# Altium footprint library Eurobot_lib.PcbLib: 52 footprints (part 2 of 4)
Each footprint in its own frame and in the unit in brackets; x right, y up, seen from the top. Pads: shape width x height; smd on the part's side, far side on the other; paste and mask are expansions set on the pad; w line width, h text height; cw(c..) or ccw(c..) is an arc to the next point about the centre after c.
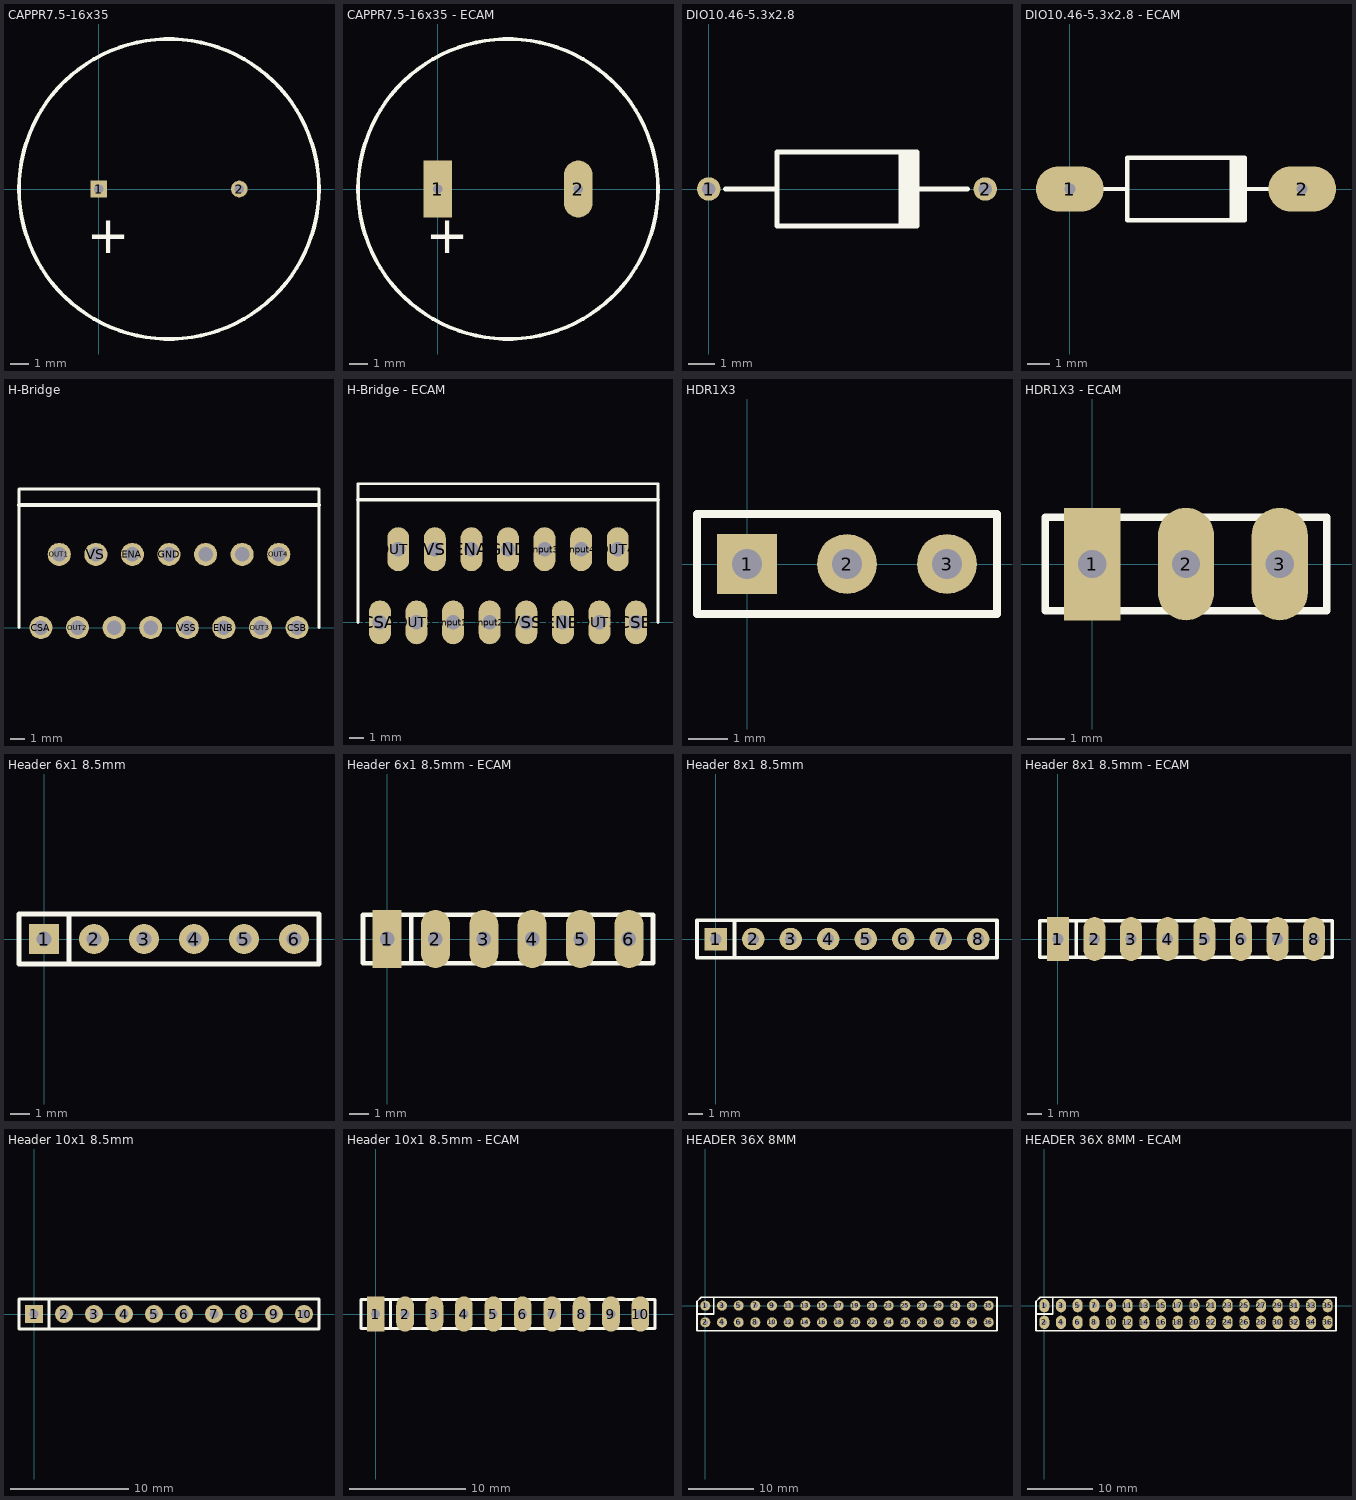
[diagram p1: the footprints below, top view; thin cyan lines are the x and y axes]

## CAPPR7.5-16x35 [mil] "Capacitor, Electrolytic, Radial; Body 16 x 35 mm (Dia.xH typ); Pin Spacing 7.5 mm (typ)"
pads (2):
  rect 35x35 hole 19.68: 1(0,0)
  round 35 hole 19.68: 2(295.28,0)
Top Overlay:
  circle w7.87: c147.64,0 r314.96
  text "+" at -25,-135 h78.74

## CAPPR7.5-16x35 - ECAM [mil] "Capacitor, Electrolytic, Radial; Body 16 x 35 mm (Dia.xH typ); Pin Spacing 7.5 mm (typ)"
pads (2):
  rect 60x120 hole 19.68: 1(0,0)
  oval 60x120 hole 19.68: 2(295.28,0)
Top Overlay:
  circle w7.87: c147.64,0 r314.96
  text "+" at -25,-135 h78.74

## DIO10.46-5.3x2.8 [mil] "Diode, Axial; Body 5.2 x 2.7 mm (LxDia. max), Lead Dia. 0.86 mm (max)"
height 110.24
pads (2):
  round 35 hole 19.68: 1(0,0) 2(411.81,0)
Top Overlay:
  rectangle: 282.68,-55.12 314.17,55.12
  lines w7.87: 25,0 101.57,0 ; 305,0 385,0 ; 310.24,-55.12 101.57,-55.12 101.57,55.12 310.24,55.12

## DIO10.46-5.3x2.8 - ECAM [mil] "Diode, Axial; Body 5.2 x 2.7 mm (LxDia. max), Lead Dia. 0.86 mm (max)"
height 110.24
pads (2):
  oval 120x80 hole 19.68: 1(0,0) 2(411.81,0)
Top Overlay:
  rectangle: 282.68,-55.12 314.17,55.12
  lines w7.87: 25,0 101.57,0 ; 305,0 385,0 ; 310.24,-55.12 101.57,-55.12 101.57,55.12 310.24,55.12

## H-Bridge [mm] "MultiWatt15; 15 Leads; Row Spacing 5.08 mm; Pitch 2.54 mm"
height 5.08
pads (15):
  round 1.6 hole 1: CSA(4.064,0) CSB(21.844,0) ENA(10.414,5.08) ENB(16.764,0) GND(12.954,5.08) input1(9.144,0) input2(11.684,0) input3(15.494,5.08) input4(18.034,5.08) OUT1(5.334,5.08) OUT2(6.604,0) OUT3(19.304,0) OUT4(20.574,5.08) VS(7.874,5.08) VSS(14.224,0)
Top Overlay:
  lines w0.2: 2.54,0 2.54,9.627 23.368,9.627 23.368,0
  lines w0.254: 2.54,8.509 23.368,8.509

## H-Bridge - ECAM [mil] "MultiWatt15; 15 Leads; Row Spacing 5.08 mm; Pitch 2.54 mm"
height 200
pads (15):
  oval 60x120 hole 39.37: CSA(160,0) CSB(860,0) ENA(410,200) ENB(660,0) GND(510,200) input1(360,0) input2(460,0) input3(610,200) input4(710,200) OUT1(210,200) OUT2(260,0) OUT3(760,0) OUT4(810,200) VS(310,200) VSS(560,0)
Top Overlay:
  lines w7.87: 100,0 100,379 920,379 920,0
  lines w10: 100,335 920,335

## HDR1X3 [mil] "Connector; Header; 3 Position"
pads (3):
  rect 60x60 hole 30: 1(0,0)
  round 60 hole 30: 2(100,0) 3(200,0)
Top Overlay:
  lines w7.87: -50,-50 -50,50 250,50 250,-50 -50,-50

## HDR1X3 - ECAM [mil] "Connector; Header; 3 Position"
pads (3):
  rect 60x120 hole 30: 1(0,0)
  oval 60x120 hole 30: 2(100,0) 3(200,0)
Top Overlay:
  lines w7.87: -50,-50 -50,50 250,50 250,-50 -50,-50

## Header 6x1 8.5mm [mil] "Stackable 6 pin header"
pads (6):
  rect 60x60 hole 30: 1(0,0)
  round 60 hole 30: 2(100,0) 3(200,0) 4(300,0) 5(400,0) 6(500,0)
Top Overlay:
  lines w10: 50,-50 550,-50 550,50 50,50 ; 50,-50 50,50 ; 50,-50 -50,-50 -50,0 -50,50 50,50
3D body "SIL_Socket06.stp": height 334.65, standoff -584.65, extent -49.99,-49.99 550.01,50.01

## Header 6x1 8.5mm - ECAM [mil] "Stackable 6 pin header"
pads (6):
  rect 60x120 hole 30: 1(0,0)
  oval 60x120 hole 30: 2(100,0) 3(200,0) 4(300,0) 5(400,0) 6(500,0)
Top Overlay:
  lines w10: 50,-50 550,-50 550,50 50,50 ; 50,-50 50,50 ; 50,-50 -50,-50 -50,0 -50,50 50,50
3D body "SIL_Socket06.stp": height 334.65, standoff -584.65, extent -49.99,-49.99 550.01,50.01

## Header 8x1 8.5mm [mil] "Stackable 8 pin header"
pads (8):
  rect 60x60 hole 30: 1(0,0)
  round 60 hole 30: 2(100,0) 3(200,0) 4(300,0) 5(400,0) 6(500,0) 7(600,0) 8(700,0)
Top Overlay:
  lines w10: 50,-50 50,50 ; -50,-50 750,-50 750,50 -50,50 -50,-50
3D body "SIL_Socket08_.stp": height 334.65, standoff -584.65, extent -50,-49.99 750,50.01

## Header 8x1 8.5mm - ECAM [mil] "Stackable 8 pin header"
pads (8):
  rect 60x120 hole 30: 1(0,0)
  oval 60x120 hole 30: 2(100,0) 3(200,0) 4(300,0) 5(400,0) 6(500,0) 7(600,0) 8(700,0)
Top Overlay:
  lines w10: 50,-50 50,50 ; -50,-50 -50,50 750,50 750,-50 -50,-50
3D body "SIL_Socket08_.stp": height 334.65, standoff -584.65, extent -50,-49.99 750,50.01

## Header 10x1 8.5mm [mil] "Stackable 10 pin header"
pads (10):
  rect 60x60 hole 30: 1(0,0)
  round 60 hole 30: 2(100,0) 3(200,0) 4(300,0) 5(400,0) 6(500,0) 7(600,0) 8(700,0) 9(800,0) 10(900,0)
Top Overlay:
  lines w10: 50,-50 -50,-50 -50,50 50,50 ; 50,-50 950,-50 950,50 50,50 ; 50,-50 50,50
3D body "SIL_Socket10.stp": height 334.65, standoff -584.65, extent -50,-50 950,50

## Header 10x1 8.5mm - ECAM [mil] "Stackable 10 pin header"
pads (10):
  rect 60x120 hole 30: 1(0,0)
  oval 60x120 hole 30: 2(100,0) 3(200,0) 4(300,0) 5(400,0) 6(500,0) 7(600,0) 8(700,0) 9(800,0) 10(900,0)
Top Overlay:
  lines w10: 50,-50 50,50 ; 50,-50 950,-50 950,50 50,50 ; 50,-50 -50,-50 -50,50 50,50
3D body "SIL_Socket10.stp": height 334.65, standoff -584.65, extent -50,-50 950,50

## HEADER 36X 8MM [mil] "Stackable 10 pin header"
pads (36):
  round 60 hole 30: 1(0,0) 2(0,-100) 3(100,0) 4(100,-100) 5(200,0) 6(200,-100) 7(300,0) 8(300,-100) 9(400,0) 10(400,-100) 11(500,0) 12(500,-100) 13(600,0) 14(600,-100) 15(700,0) 16(700,-100) 17(800,0) 18(800,-100) 19(900,0) 20(900,-100) 21(1000,0) 22(1000,-100) 23(1100,0) 24(1100,-100) 25(1200,0) 26(1200,-100) 27(1300,0) 28(1300,-100) 29(1400,0) 30(1400,-100) 31(1500,0) 32(1500,-100) 33(1600,0) 34(1600,-100) 35(1700,0) 36(1700,-100)
Top Overlay:
  lines w10: -50,-50 50,-50 50,50 ; -50,-150 1750,-150 1750,50 -25,50 -50,25 -50,-150
3D body "SIL_Socket36.stp": height 334.65, standoff -584.65, extent -50,-150 1750,50

## HEADER 36X 8MM - ECAM [mil] "Stackable 10 pin header"
pads (36):
  oval 60x80 hole 30: 1(0,0) 2(0,-100) 3(100,0) 4(100,-100) 5(200,0) 6(200,-100) 7(300,0) 8(300,-100) 9(400,0) 10(400,-100) 11(500,0) 12(500,-100) 13(600,0) 14(600,-100) 15(700,0) 16(700,-100) 17(800,0) 18(800,-100) 19(900,0) 20(900,-100) 21(1000,0) 22(1000,-100) 23(1100,0) 24(1100,-100) 25(1200,0) 26(1200,-100) 27(1300,0) 28(1300,-100) 29(1400,0) 30(1400,-100) 31(1500,0) 32(1500,-100) 33(1600,0) 34(1600,-100) 35(1700,0) 36(1700,-100)
Top Overlay:
  lines w10: -50,-50 50,-50 50,50 ; -50,-150 1750,-150 1750,50 -25,50 -50,25 -50,-150
3D body "SIL_Socket36.stp": height 334.65, standoff -584.65, extent -50,-150 1750,50